# EAGLE library part CODEC_AK4556 (library DSP_PID)
3V 192KHZ STEREO AUDIO CODEC
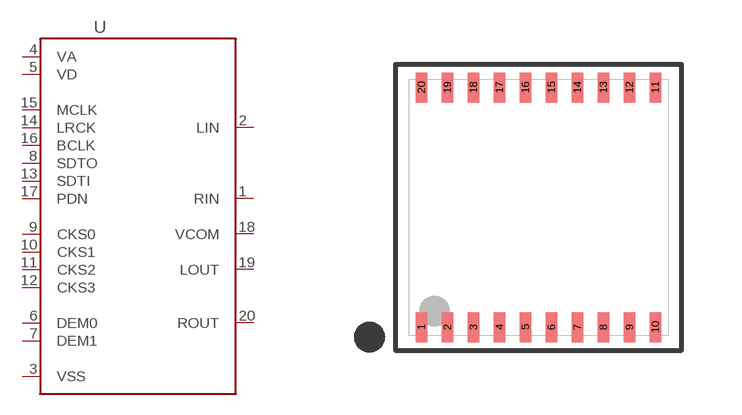
[diagram p2: symbol with the pads of TSSOP-20; footprint TSSOP-20]

Designator prefix U

## CODEC_AK4556 (MFG: AKM SEMI; MPN: AK4556VT; PRICE: 5.45; VENDOR: DIGIKEY; VPN: 974-1021-1-ND)  [TSSOP-20]
1  RIN  pas
2  LIN  pas
3  VSS  pas
4  VA  pas
5  VD  pas
6  DEM0  pas
7  DEM1  pas
8  SDTO  pas
9  CKS0  pas
10  CKS1  pas
11  CKS2  pas
12  CKS3  pas
13  SDTI  pas
14  LRCK  pas
15  MCLK  pas
16  BCLK  pas
17  PDN  pas
18  VCOM  pas
19  LOUT  pas
20  ROUT  pas

## Footprint TSSOP-20 (pad centres in mm)
smd 0.28 x 0.75: 1 -2.925,-3; 2 -2.275,-3; 3 -1.625,-3; 4 -0.975,-3; 5 -0.325,-3; 6 0.325,-3; 7 0.975,-3; 8 1.625,-3; 9 2.275,-3; 10 2.925,-3; 11 2.925,3; 12 2.275,3; 13 1.625,3; 14 0.975,3; 15 0.325,3; 16 -0.325,3; 17 -0.975,3; 18 -1.625,3; 19 -2.275,3; 20 -2.925,3